# EAGLE library part PROTOPIN_2X18 (library MarcEagleParts)
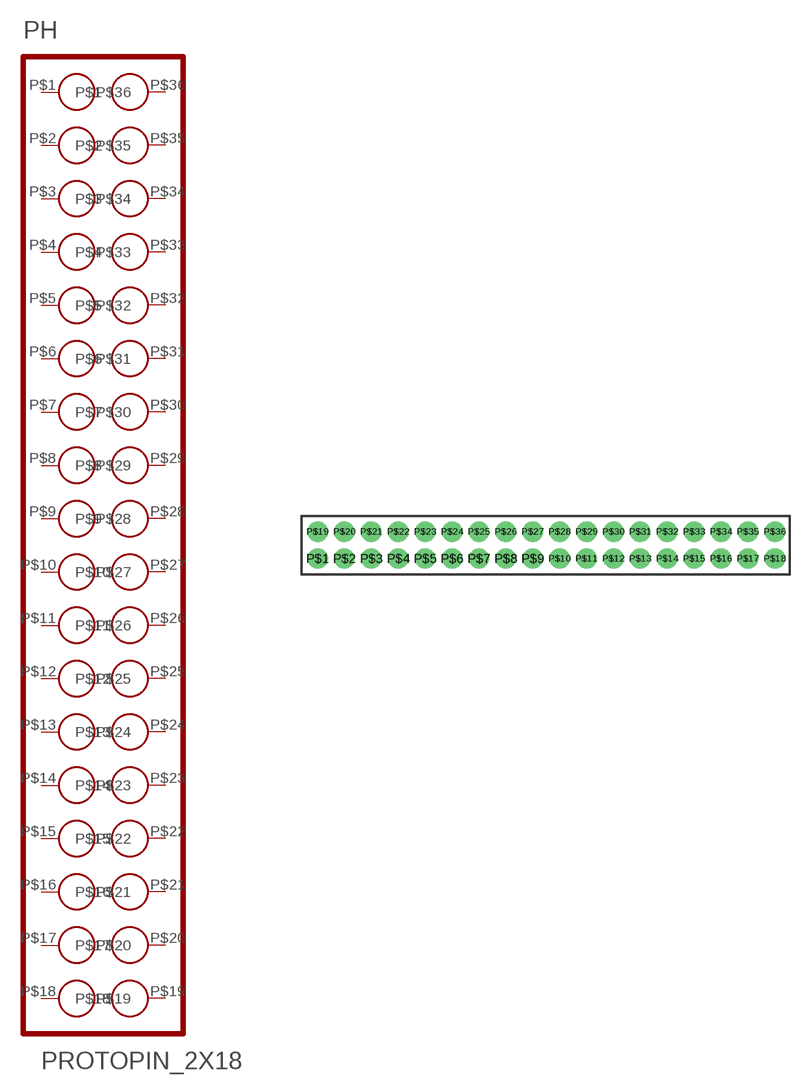
[diagram p9: symbol with the pads of 2X18_PINHEADER; footprint 2X18_PINHEADER]

Designator prefix PH

## PROTOPIN_2X18  [2X18_PINHEADER]
P$1  P$1  pas
P$2  P$2  pas
P$3  P$3  pas
P$4  P$4  pas
P$5  P$5  pas
P$6  P$6  pas
P$7  P$7  pas
P$8  P$8  pas
P$9  P$9  pas
P$10  P$10  pas
P$11  P$11  pas
P$12  P$12  pas
P$13  P$13  pas
P$14  P$14  pas
P$15  P$15  pas
P$16  P$16  pas
P$17  P$17  pas
P$18  P$18  pas
P$19  P$19  pas
P$20  P$20  pas
P$21  P$21  pas
P$22  P$22  pas
P$23  P$23  pas
P$24  P$24  pas
P$25  P$25  pas
P$26  P$26  pas
P$27  P$27  pas
P$28  P$28  pas
P$29  P$29  pas
P$30  P$30  pas
P$31  P$31  pas
P$32  P$32  pas
P$33  P$33  pas
P$34  P$34  pas
P$35  P$35  pas
P$36  P$36  pas

## Footprint 2X18_PINHEADER (pad centres in mm)
drill 1.2 pad 1.93: P$1 0,0; P$2 2.54,0; P$3 5.08,0; P$4 7.62,0; P$5 10.16,0; P$6 12.7,0; P$7 15.24,0; P$8 17.78,0; P$9 20.32,0; P$10 22.86,0; P$11 25.4,0; P$12 27.94,0; P$13 30.48,0; P$14 33.02,0; P$15 35.56,0; P$16 38.1,0; P$17 40.64,0; P$18 43.18,0; P$19 0,2.54; P$20 2.54,2.54; P$21 5.08,2.54; P$22 7.62,2.54; P$23 10.16,2.54; P$24 12.7,2.54; P$25 15.24,2.54; P$26 17.78,2.54; P$27 20.32,2.54; P$28 22.86,2.54; P$29 25.4,2.54; P$30 27.94,2.54; P$31 30.48,2.54; P$32 33.02,2.54; P$33 35.56,2.54; P$34 38.1,2.54; P$35 40.64,2.54; P$36 43.18,2.54